# Altium footprint library SnapEDApcb.PcbLib: 1 footprints
Each footprint in its own frame and in the unit in brackets; x right, y up, seen from the top. Pads: shape width x height; smd on the part's side, far side on the other; paste and mask are expansions set on the pad; w line width, h text height; cw(c..) or ccw(c..) is an arc to the next point about the centre after c.
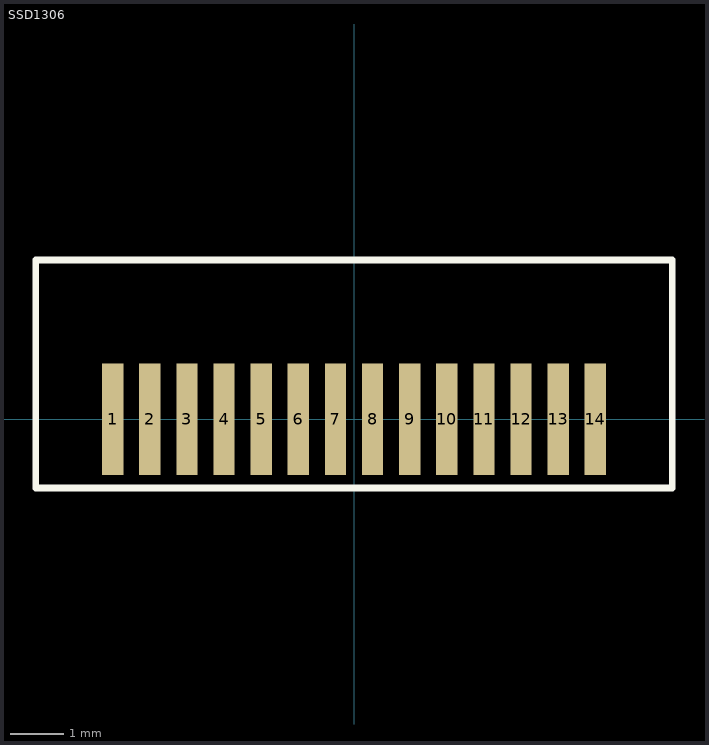
[diagram p0: the footprint, top view; thin cyan lines are the x and y axes]

## SSD1306 [mm]
pads (14):
  rect 0.4x2.1 smd: 1(-4.55,0) 2(-3.85,0) 3(-3.15,0) 4(-2.45,0) 5(-1.75,0) 6(-1.05,0) 7(-0.35,0) 8(0.35,0) 9(1.05,0) 10(1.75,0) 11(2.45,0) 12(3.15,0) 13(3.85,0) 14(4.55,0)
Top Overlay:
  lines w0.127: -6,-1.3 -6,3 6,3 6,-1.3 -6,-1.3